# Altium schematic symbol library RLC.SchLib: 75 symbols
Pins are listed as number, name and electrical type; pins without a type are passive.

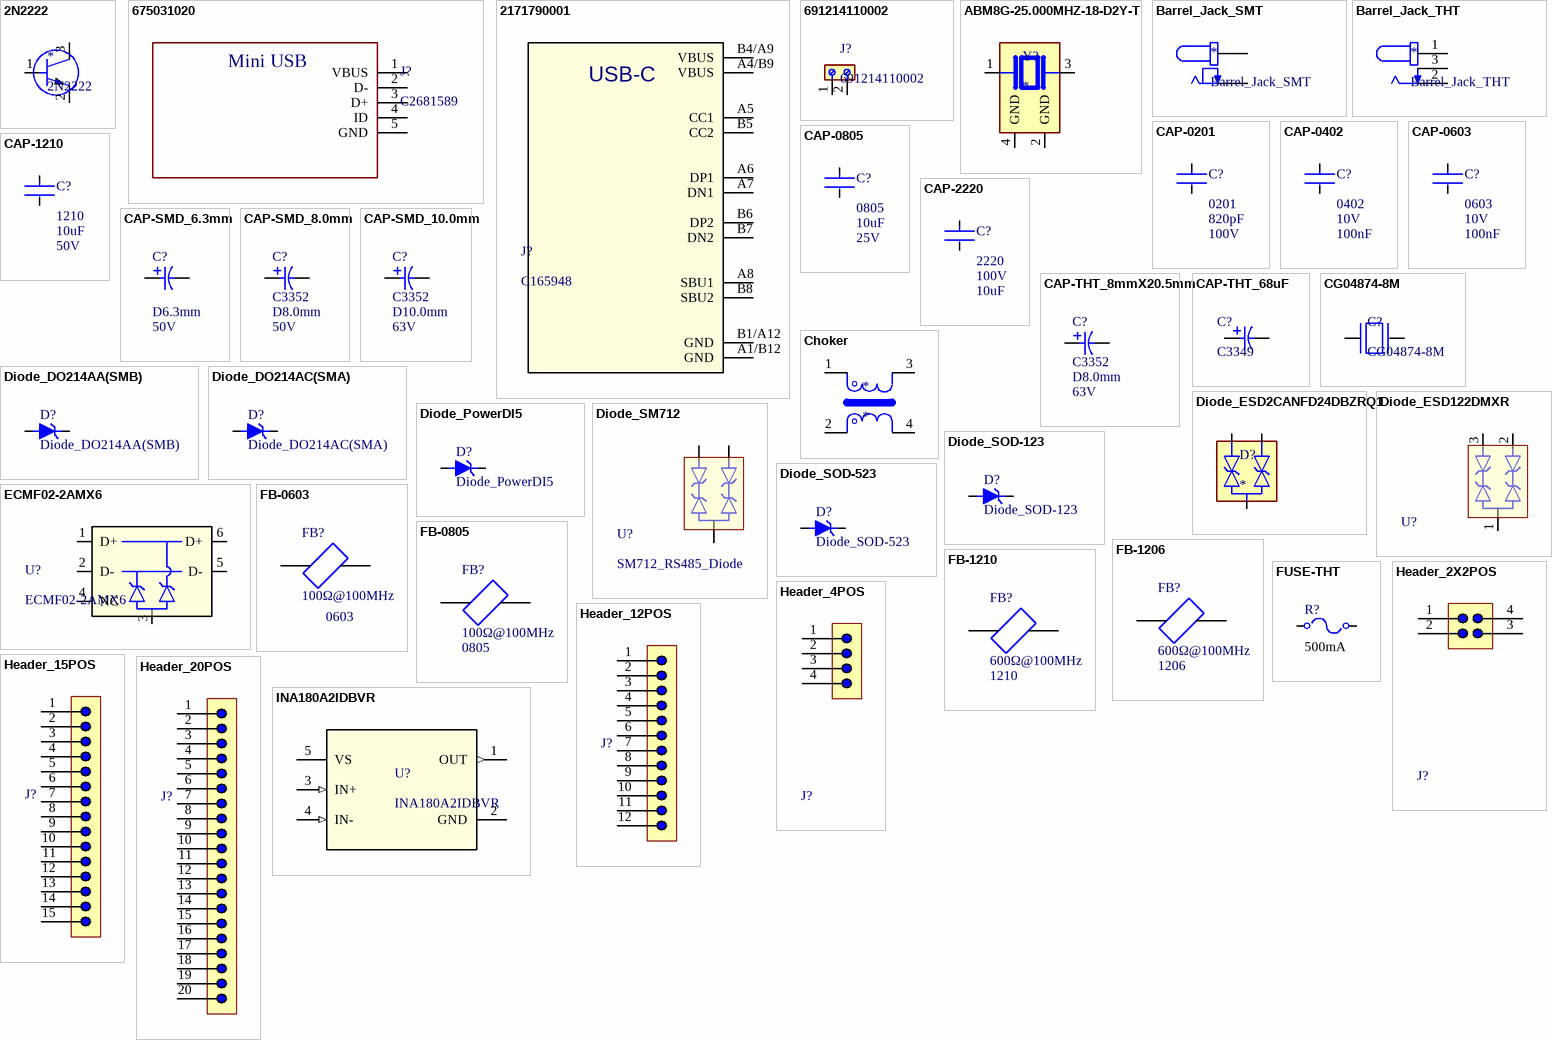
[diagram p0: symbols 2N2222 to INA180A2IDBVR]

## 2N2222
designator *
TO92
footprint 2N2222_TO92
pins: 1, 2, 3

## 675031020
designator J?, comment C2681589
JLCPCB - C2681589; MF: Molex; MP: 675031020; SnapEDA_Link: https://www.snapeda.com/parts/675031020/Molex/view-part/?ref=snap; Package: None; Value: *; Check_prices: https://www.snapeda.com/parts/675031020/Molex/view-part/?ref=eda
footprint CON00317_5_MOL
pins: 1 VBUS, 2 D-, 3 D+, 4 ID, 5 GND
text: Mini USB

## 2171790001
designator J?, comment C165948
JLCPCB: C165948 / Korean Hroparts Elec; Mfr_Name: Korean Hroparts Elec; RefDes: RefDes; Type: Type
footprint 2171790001_MOL
pins: A1/B12 GND (power), A4/B9 VBUS (power), A5 CC1, A6 DP1, A7 DN1, A8 SBU1, B1/A12 GND (power), B4/A9 VBUS (power), B5 CC2, B6 DP2, B7 DN2, B8 SBU2
text: USB-C

## 691214110002
designator J?
2POS Screw Terminal Block Horizontal with Board 0.138 (3.50mm) Through Hole; MF: WÃ¼rth Elektronik; SnapEDA_Link: https://www.snapeda.com/parts/691214110002/W%25C3%25BCrth+Elektronik+Midcom/view-part/?ref=snap; Package: None; Value: *; MP: 691214110002; Check_prices: https://www.snapeda.com/parts/691214110002/W%25C3%25BCrth+Elektronik+Midcom/view-part/?ref=eda
footprint 691214110002
pins: 1, 2

## ABM8G-25.000MHZ-18-D2Y-T
designator Y?
25 MHz Â±20ppm Crystal 18pF 60 Ohms 4-SMD, No Lead; MF: Abracon; MP: ABM8G-25.000MHZ-18-D2Y-T; Value: *; SnapEDA_Link: https://www.snapeda.com/parts/ABM8G-25.000MHZ-18-D2Y-T/Abracon+LLC/view-part/?ref=snap; Purchase-URL: https://pricing.snapeda.com/search/part/ABM8G-25.000MHZ-18-D2Y-T/?ref=eda; Availability: In Stock; Price: None; Package: SMD-4 Abracon; Check_prices: https://www.snapeda.com/parts/ABM8G-25.000MHZ-18-D2Y-T/Abracon+LLC/view-part/?ref=eda
footprint XTAL_ABM8G-25.000MHZ-18-D2Y-T
pins: 1, 2 GND (power), 3 2, 4 GND (power)

## Barrel_Jack_SMT
designator *
2.0 x 6.5 mm, 5.0 A, Horizontal, Surface Mount (SMT), Dc Power Jack Connector / PJ-002AH-SMT-TR
footprint Barrel_Jack_SMT
pins: 1A 1, 1B 1, 2A 2, 2B 2

## Barrel_Jack_THT
designator *
2.0 x 6.5 mm, 5.0 A, Horizontal, Surface Mount (SMT), Dc Power Jack Connector / PJ-002AH-SMT-TR
footprint Barrel_Jack_THT
pins: 1, 1A 1, 2, 3

## CAP-0201
designator C?, comment Capacitance: 820pF  Voltage Rating: 100V  (hidden comment: 0201)
CAP 0201; 3DS Part Number: 220-00002; Manufacturer Part Number: GRM32ER60J107ME20L; Manufacturer: Murata; Voltage: 6.3V; Temperature Characteristic: X5R; Temperature Coefficient: 15%; Material: Ceramic; Value: 100uF; Tolerance: 20%; Octopart: https://octopart.com/grm32er60j107me20l-murata-197007; ComponentLink2URL: https://search.murata.co.jp/Ceramy/image/img/A01X/G101/ENG/GRM32ER60J107ME20-01.pdf; Temperature Range High: +85°C; RoHS: TRUE; Device Class L3: Ceramic Capacitors; Device Class L2: Capacitors; Category: Cap; Device Class L1: Passive Components; Automotive: No; Digikey Description: CAP CER 100UF 6.3V X5R 1210; Temperature: -55°C to +85°C; Height: 2.7mm; Ipc Land Pattern Name: CAPC320250X250; Temperature Range Low: -55°C; Lead Free: Yes; ComponentLink2Description: Datasheet; Package: 0201
footprint CAP-0201
pins: 1, 2

## CAP-0402
designator C?, comment value 100nF  Voltage Rating: 10V  (hidden comment: 0402)
CAP 0402; 3DS Part Number: 220-00002; Manufacturer Part Number: GRM32ER60J107ME20L; Manufacturer: Murata; Voltage: 6.3V; Temperature Characteristic: X5R; Temperature Coefficient: 15%; Capacitance: 100uF; Material: Ceramic; Tolerance: 20%; Octopart: https://octopart.com/grm32er60j107me20l-murata-197007; ComponentLink2URL: https://search.murata.co.jp/Ceramy/image/img/A01X/G101/ENG/GRM32ER60J107ME20-01.pdf; Temperature Range High: +85°C; RoHS: TRUE; Device Class L3: Ceramic Capacitors; Device Class L2: Capacitors; Category: Cap; Device Class L1: Passive Components; Automotive: No; Digikey Description: CAP CER 100UF 6.3V X5R 1210; Temperature: -55°C to +85°C; Height: 2.7mm; Ipc Land Pattern Name: CAPC320250X250; Temperature Range Low: -55°C; Lead Free: Yes; ComponentLink2Description: Datasheet; Package: 0402
footprint CAP-0402
pins: 1, 2

## CAP-0603
designator C?, comment Voltage Rating: 10V  Capacitance: 100nF  (hidden comment: 0603)
CAP 0603; 3DS Part Number: 220-00002; Manufacturer Part Number: GRM32ER60J107ME20L; Manufacturer: Murata; Temperature Characteristic: X5R; Temperature Coefficient: 15%; Material: Ceramic; Value: 100uF; Tolerance: 20%; Voltage: 6.3V; Octopart: https://octopart.com/grm32er60j107me20l-murata-197007; ComponentLink2URL: https://search.murata.co.jp/Ceramy/image/img/A01X/G101/ENG/GRM32ER60J107ME20-01.pdf; Temperature Range High: +85°C; RoHS: TRUE; Device Class L3: Ceramic Capacitors; Device Class L2: Capacitors; Category: Cap; Device Class L1: Passive Components; Automotive: No; Digikey Description: CAP CER 100UF 6.3V X5R 1210; Temperature: -55°C to +85°C; Height: 2.7mm; Ipc Land Pattern Name: CAPC320250X250; Temperature Range Low: -55°C; Lead Free: Yes; ComponentLink2Description: Datasheet; Package: 0603
footprint CAP-0603
pins: 1, 2

## CAP-0805
designator C?, comment Capacitance: 10uF  Voltage Rating: 25V  (hidden comment: 0805)
CAP 0805; 3DS Part Number: 220-00002; Manufacturer Part Number: GRM32ER60J107ME20L; Manufacturer: Murata; Voltage: 6.3V; Temperature Characteristic: X5R; Temperature Coefficient: 15%; Material: Ceramic; Value: 100uF; Tolerance: 20%; Octopart: https://octopart.com/grm32er60j107me20l-murata-197007; ComponentLink2URL: https://search.murata.co.jp/Ceramy/image/img/A01X/G101/ENG/GRM32ER60J107ME20-01.pdf; Temperature Range High: +85°C; RoHS: TRUE; Device Class L3: Ceramic Capacitors; Device Class L2: Capacitors; Category: Cap; Device Class L1: Passive Components; Automotive: No; Digikey Description: CAP CER 100UF 6.3V X5R 1210; Temperature: -55°C to +85°C; Height: 2.7mm; Ipc Land Pattern Name: CAPC320250X250; Temperature Range Low: -55°C; Lead Free: Yes; ComponentLink2Description: Datasheet; Package: 0805
footprint CAP-0805 (Footprint not found)
pins: 1, 2

## CAP-1210
designator C?, comment Capacitance: 10uF  Voltage Rating: 50V  (hidden comment: 1210)
CAP 1210; 3DS Part Number: 220-00002; Manufacturer Part Number: GRM32ER60J107ME20L; Manufacturer: Murata; Temperature Characteristic: X5R; Temperature Coefficient: 15%; Material: Ceramic; Tolerance: 20%; Value: 10uF; Octopart: https://octopart.com/grm32er60j107me20l-murata-197007; ComponentLink2URL: https://search.murata.co.jp/Ceramy/image/img/A01X/G101/ENG/GRM32ER60J107ME20-01.pdf; Temperature Range High: +85°C; RoHS: TRUE; Device Class L3: Ceramic Capacitors; Device Class L2: Capacitors; Category: Cap; Device Class L1: Passive Components; Automotive: No; Digikey Description: CAP CER 100UF 6.3V X5R 1210; Temperature: -55°C to +85°C; Height: 2.7mm; Ipc Land Pattern Name: CAPC320250X250; Temperature Range Low: -55°C; Lead Free: Yes; ComponentLink2Description: Datasheet; Voltage: 50V; Package: 1210
footprint CAP-1210 (CAP 1210)
pins: 1, 2

## CAP-2220
designator C?, comment Voltage Rating: 100V  Capacitance: 10uF  (hidden comment: 2220)
CAP 2220; 3DS Part Number: 220-00002; Manufacturer Part Number: GRM32ER60J107ME20L; Manufacturer: Murata; Voltage: 6.3V; Temperature Characteristic: X5R; Temperature Coefficient: 15%; Material: Ceramic; Value: 100uF; Tolerance: 20%; Octopart: https://octopart.com/grm32er60j107me20l-murata-197007; ComponentLink2URL: https://search.murata.co.jp/Ceramy/image/img/A01X/G101/ENG/GRM32ER60J107ME20-01.pdf; Temperature Range High: +85°C; RoHS: TRUE; Device Class L3: Ceramic Capacitors; Device Class L2: Capacitors; Category: Cap; Device Class L1: Passive Components; Automotive: No; Digikey Description: CAP CER 100UF 6.3V X5R 1210; Temperature: -55°C to +85°C; Height: 2.7mm; Ipc Land Pattern Name: CAPC320250X250; Temperature Range Low: -55°C; Lead Free: Yes; ComponentLink2Description: Datasheet; Package: 2220
footprint CAP-2220
pins: 1, 2

## CAP-SMD_6.3mm
designator C?, comment Diameter: D6.3mm  VoltageRating: 50V  (hidden comment: C3349)
SMD Aluminium Electrolytic Capacitor / D6.3mm; Manufacturer_Name: Panasonic; Manufacturer_Part_Number: EEE-FK1H470XP; Copyright: Copyright (C) 2025 Ultra Librarian. All rights reserved.
footprint CAP-ELECTROLYTIC-D6.3
pins: 1, 2

## CAP-SMD_8.0mm
designator C?, comment C3352  Diameter: D8.0mm  VoltageRating: 50V
SMD Aluminium Electrolytic Capacitor / D8.0mm; Manufacturer_Name: Panasonic; Manufacturer_Part_Number: EEE-FK1H470XP; Copyright: Copyright (C) 2025 Ultra Librarian. All rights reserved.
footprint CAP-ELECTROLYTIC-D6.3
pins: 1, 2

## CAP-SMD_10.0mm
designator C?, comment C3352  Diameter: D10.0mm  VoltageRating: 63V
SMD Aluminium Electrolytic Capacitor / D10.0mm / EEH-ZA1J560P; Manufacturer_Name: Panasonic; Manufacturer_Part_Number: EEE-FK1H470XP; Copyright: Copyright (C) 2025 Ultra Librarian. All rights reserved.
footprint CAP-ELECTROLYTIC-D6.3
pins: 1, 2

## CAP-THT_8mmX20.5mm
designator C?, comment C3352  Diameter: D8.0mm  VoltageRating: 63V
90 degree laying down THT Capacitor; Manufacturer_Name: Panasonic; Manufacturer_Part_Number: EEE-FK1H470XP; Copyright: Copyright (C) 2025 Ultra Librarian. All rights reserved.
footprint CAP-THT-Electrolytic-D8.0mm_90degree
pins: 1, 2

## CAP-THT_68uF
designator C?, comment C3349
3.50mm Lead Space / 8mm Dia / 493-1935-ND; Manufacturer_Name: Panasonic; Manufacturer_Part_Number: EEE-FK1H470XP; Copyright: Copyright (C) 2025 Ultra Librarian. All rights reserved.
footprint CAP-THT-Electrolytic-D8.0
pins: 1, 2

## CG04874-8M
designator C?
8 MHz ±20ppm Crystal 8pF 500 Ohms 2-SMD, No Lead; MF: NDK America, Inc.; SnapEDA_Link: https://www.snapeda.com/parts/CG04874-8M/NDK+America%252C+Inc./view-part/?ref=snap; Package: SMD-2 NDK America,; Value: *; MP: CG04874-8M; Check_prices: https://www.snapeda.com/parts/CG04874-8M/NDK+America%252C+Inc./view-part/?ref=eda
footprint XTALDFN320X250X100-2N (Footprint not found)
pins: 1, 2

## Choker
designator *
Choker 2 Lane / SRF1280-4R7Y
footprint Choker_SRF1280-4R7Y (Footprint not found)
pins: 1, 2, 3 4, 4

## Diode_DO214AA(SMB)
designator D?
SMB Diode; MF: ON Semiconductor; MP: MMSZ4681T1G; SnapEDA_Link: https://www.snapeda.com/parts/MMSZ4681T1G/Onsemi/view-part/?ref=snap; Package: SOD-123-2 ON Semiconductor; Value: *; Check_prices: https://www.snapeda.com/parts/MMSZ4681T1G/Onsemi/view-part/?ref=eda
footprint DIO_DIO214AA(SMB)
pins: A, C K

## Diode_DO214AC(SMA)
designator D?
SMA Diode; MF: ON Semiconductor; MP: MMSZ4681T1G; SnapEDA_Link: https://www.snapeda.com/parts/MMSZ4681T1G/Onsemi/view-part/?ref=snap; Package: SOD-123-2 ON Semiconductor; Value: *; Check_prices: https://www.snapeda.com/parts/MMSZ4681T1G/Onsemi/view-part/?ref=eda
footprint DIO_DIO214AC(SMA)
pins: A, C K

## Diode_ESD2CANFD24DBZRQ1
designator D?
FDCAN BUS Diode - 24V; MF: {'manufacturer': u'Texas Instruments'}; MP: ESD2CANFD24DBZRQ1; Package: None; Price: None; Value: *; Availability: Unavailable
footprint SOT23-3
pins: 1 IO1, 2 IO2, 3 GND (power)

## Diode_ESD122DMXR
designator U?, comment ESD122DMXR  (value not drawn)
Dual 0.2-pF, &plusmn;3.6-V, &plusmn;17-kV ESD protection diode for USB Type-C and HDMI 2.0 3-X2SON -40 to 125; Manufacturer_Name: Texas Instruments; Copyright: Copyright (C) 2025 Ultra Librarian. All rights reserved.; Manufacturer_Part_Number: ESD122DMXR; RefDes: RefDes; Type: Type
footprint DMX3_TEX
pins: 1, 2, 3

## Diode_PowerDI5
designator D?
PowerDI5 package from Diodes Incorporated / SBRT20M60SP5-7; MF: ON Semiconductor; MP: MMSZ4681T1G; SnapEDA_Link: https://www.snapeda.com/parts/MMSZ4681T1G/Onsemi/view-part/?ref=snap; Package: SOD-123-2 ON Semiconductor; Value: *; Check_prices: https://www.snapeda.com/parts/MMSZ4681T1G/Onsemi/view-part/?ref=eda
footprint DIO_PowerDI5
pins: A, C K

## Diode_SM712
designator U?, comment SM712_RS485_Diode
CDSOT23-SM712 / RS485Protection; Manufacturer_Name: Texas Instruments; Manufacturer_Part_Number: ESD122DMXR; Copyright: Copyright (C) 2025 Ultra Librarian. All rights reserved.; RefDes: RefDes; Type: Type
footprint SOT23-3
pins: 1, 2, 3

## Diode_SOD-123
designator D?
SOD-123 Diode; MF: ON Semiconductor; MP: MMSZ4681T1G; SnapEDA_Link: https://www.snapeda.com/parts/MMSZ4681T1G/Onsemi/view-part/?ref=snap; Package: SOD-123-2 ON Semiconductor; Value: *; Check_prices: https://www.snapeda.com/parts/MMSZ4681T1G/Onsemi/view-part/?ref=eda
footprint DIO_SOD-123
pins: A, C K

## Diode_SOD-523
designator D?
SOD-523 Diode; MF: ON Semiconductor; MP: MMSZ4681T1G; SnapEDA_Link: https://www.snapeda.com/parts/MMSZ4681T1G/Onsemi/view-part/?ref=snap; Package: SOD-123-2 ON Semiconductor; Value: *; Check_prices: https://www.snapeda.com/parts/MMSZ4681T1G/Onsemi/view-part/?ref=eda
footprint DIO_SOD-523
pins: A, C K

## ECMF02-2AMX6
designator U?
Common-mode filter and ESD protection for USB 2.0 and MIPI/MDDI interfaces; Manufacturer_Name: STMicroelectronics; Copyright: Copyright (C) 2025 Ultra Librarian. All rights reserved.; Manufacturer_Part_Number: ECMF02-2AMX6; RefDes: RefDes; Type: Type
footprint QFN-6L_STM (Footprint not found)
pins: 1 D+, 2 D-, 3 GND, 4 NC, 5 D-, 6 D+

## FB-0603
designator FB?  Impedance: 100Ω@100MHz  Package: 0603  (hidden comment: FB-0603)
MF: TDK; SnapEDA_Link: https://www.snapeda.com/parts/MPZ2012S601AT000/TDK-Lambda%20Americas%20Inc/view-part/259003/?ref=snap; Value: *; Availability: Good; Purchase-URL: https://pricing.snapeda.com/search/part/MPZ2012S601AT000/?ref=eda; Price: None
footprint FB-0603
pins: 1, 2

## FB-0805
designator FB?  Impedance: 100Ω@100MHz  Package: 0805  (hidden comment: FB-0805)
MF: TDK; SnapEDA_Link: https://www.snapeda.com/parts/MPZ2012S601AT000/TDK-Lambda%20Americas%20Inc/view-part/259003/?ref=snap; Value: *; Availability: Good; Purchase-URL: https://pricing.snapeda.com/search/part/MPZ2012S601AT000/?ref=eda; Price: None
footprint FB-0805
pins: 1, 2

## FB-1206
designator FB?  Inductance: 600Ω@100MHz  Package: 1206  (hidden comment: FB-1206)
MF: TDK; SnapEDA_Link: https://www.snapeda.com/parts/MPZ2012S601AT000/TDK-Lambda%20Americas%20Inc/view-part/259003/?ref=snap; Value: *; Availability: Good; Purchase-URL: https://pricing.snapeda.com/search/part/MPZ2012S601AT000/?ref=eda; Price: None
footprint FB-1206
pins: 1, 2

## FB-1210
designator FB?  Impedance: 600Ω@100MHz  Package: 1210  (hidden comment: FB-1210)
MF: TDK; SnapEDA_Link: https://www.snapeda.com/parts/MPZ2012S601AT000/TDK-Lambda%20Americas%20Inc/view-part/259003/?ref=snap; Value: *; Availability: Good; Purchase-URL: https://pricing.snapeda.com/search/part/MPZ2012S601AT000/?ref=eda; Price: None
footprint FB-1210
pins: 1, 2

## FUSE-THT
designator R?  Itrip: 500mA  (hidden comment: FUSE-THT)
Type: PTC Fuse
footprint RES-2512 (Footprint not found)
pins: 1, 2

## Header_2X2POS
designator J?, comment 61300411121  (value not drawn)
4POS Pin Header, THT, Vertical, pitch 2.54mm, 1 Row, 4P; Manufacturer: Wurth Elektronik; Match Code: WR-PHD; Contact Resistance: 20mOhm; Rated Current: 3A; Working Voltage: 250V; Withstanding Voltage: 500V; Manufacturer Part Number: 61300411121; Category: Board-to-Board Connectors; ComponentLink1Description: Website Link; ComponentLink1URL: https://www.we-online.com/redexpert/article/61300411121?ad; ComponentLink2Description: Datasheet Link; ComponentLink2URL: https://www.we-online.com/redexpert/spec/61300411121?ad; Mount: Through Hole; Operating Temperature Max: 105°C; Operating Temperature Min: -40°C; Packaging: Bag; Gender: Pin Header; Number of Pins: 4; Number of Rows: 1; Orientation: Vertical; Pitch: 2.54mm
footprint HEADER_2X2POS (Pin Header, pitch 2.54 mm, THT, Vertical, single row, 4p)
pins: 1, 2, 3, 4

## Header_4POS
designator J?, comment 61300411121  (value not drawn)
4POS Pin Header, THT, Vertical, pitch 2.54mm, 1 Row, 4P; Manufacturer: Wurth Elektronik; Match Code: WR-PHD; Contact Resistance: 20mOhm; Rated Current: 3A; Working Voltage: 250V; Withstanding Voltage: 500V; Manufacturer Part Number: 61300411121; Category: Board-to-Board Connectors; ComponentLink1Description: Website Link; ComponentLink1URL: https://www.we-online.com/redexpert/article/61300411121?ad; ComponentLink2Description: Datasheet Link; ComponentLink2URL: https://www.we-online.com/redexpert/spec/61300411121?ad; Mount: Through Hole; Operating Temperature Max: 105°C; Operating Temperature Min: -40°C; Packaging: Bag; Gender: Pin Header; Number of Pins: 4; Number of Rows: 1; Orientation: Vertical; Pitch: 2.54mm
footprint HEADER_4POS (Pin Header, pitch 2.54 mm, THT, Vertical, single row, 4p)
pins: 1, 2, 3, 4

## Header_12POS
designator J?, comment 61300411121  (value not drawn)
4POS Pin Header, THT, Vertical, pitch 2.54mm, 1 Row, 4P; Manufacturer: Wurth Elektronik; Match Code: WR-PHD; Contact Resistance: 20mOhm; Rated Current: 3A; Working Voltage: 250V; Withstanding Voltage: 500V; Manufacturer Part Number: 61300411121; Category: Board-to-Board Connectors; ComponentLink1Description: Website Link; ComponentLink1URL: https://www.we-online.com/redexpert/article/61300411121?ad; ComponentLink2Description: Datasheet Link; ComponentLink2URL: https://www.we-online.com/redexpert/spec/61300411121?ad; Mount: Through Hole; Operating Temperature Max: 105°C; Operating Temperature Min: -40°C; Packaging: Bag; Gender: Pin Header; Number of Pins: 4; Number of Rows: 1; Orientation: Vertical; Pitch: 2.54mm
footprint HEADER_12POS (Pin Header, pitch 2.54 mm, THT, Vertical, single row, 4p)
pins: 1, 2, 3, 4, 5, 6, 7, 8, 9, 10, 11, 12

## Header_15POS
designator J?, comment 61300411121  (value not drawn)
15POS 0.1inch; Manufacturer: Wurth Elektronik; Match Code: WR-PHD; Contact Resistance: 20mOhm; Gender: Pin Header; Pitch: 2.54mm; Rated Current: 3A; Working Voltage: 250V; Withstanding Voltage: 500V; Manufacturer Part Number: 61300411121; Category: Board-to-Board Connectors; ComponentLink1Description: Website Link; ComponentLink1URL: https://www.we-online.com/redexpert/article/61300411121?ad; ComponentLink2Description: Datasheet Link; ComponentLink2URL: https://www.we-online.com/redexpert/spec/61300411121?ad; Mount: Through Hole; Operating Temperature Max: 105°C; Operating Temperature Min: -40°C; Packaging: Bag; Number of Pins: 4; Number of Rows: 1; Orientation: Vertical
footprint HEADER_15POS (Pin Header, pitch 2.54 mm, THT, Vertical, single row, 4p)
pins: 1, 2, 3, 4, 5, 6, 7, 8, 9, 10, 11, 12, 13, 14, 15

## Header_20POS
designator J?, comment 61300411121  (value not drawn)
20POS 0.1inch; Manufacturer: Wurth Elektronik; Match Code: WR-PHD; Contact Resistance: 20mOhm; Gender: Pin Header; Pitch: 2.54mm; Rated Current: 3A; Working Voltage: 250V; Withstanding Voltage: 500V; Manufacturer Part Number: 61300411121; Category: Board-to-Board Connectors; ComponentLink1Description: Website Link; ComponentLink1URL: https://www.we-online.com/redexpert/article/61300411121?ad; ComponentLink2Description: Datasheet Link; ComponentLink2URL: https://www.we-online.com/redexpert/spec/61300411121?ad; Mount: Through Hole; Operating Temperature Max: 105°C; Operating Temperature Min: -40°C; Packaging: Bag; Number of Pins: 4; Number of Rows: 1; Orientation: Vertical
footprint HEADER_20POS (Footprint not found)
pins: 1, 2, 3, 4, 5, 6, 7, 8, 9, 10, 11, 12, 13, 14, 15, 16, 17, 18, 19, 20

## INA180A2IDBVR
designator U?
26V, 350kHz current sense amplifier 5-SOT-23 -40 to 125; Manufacturer_Name: Texas Instruments; TYPE: TYPE; RefDes: RefDes; Copyright: Copyright (C) 2026 Ultra Librarian. All rights reserved.; Manufacturer_Part_Number: INA180A2IDBVR
footprint DBV0005A_N
pins: 1 OUT (out), 2 GND (power), 3 IN+ (in), 4 IN- (in), 5 VS (power)

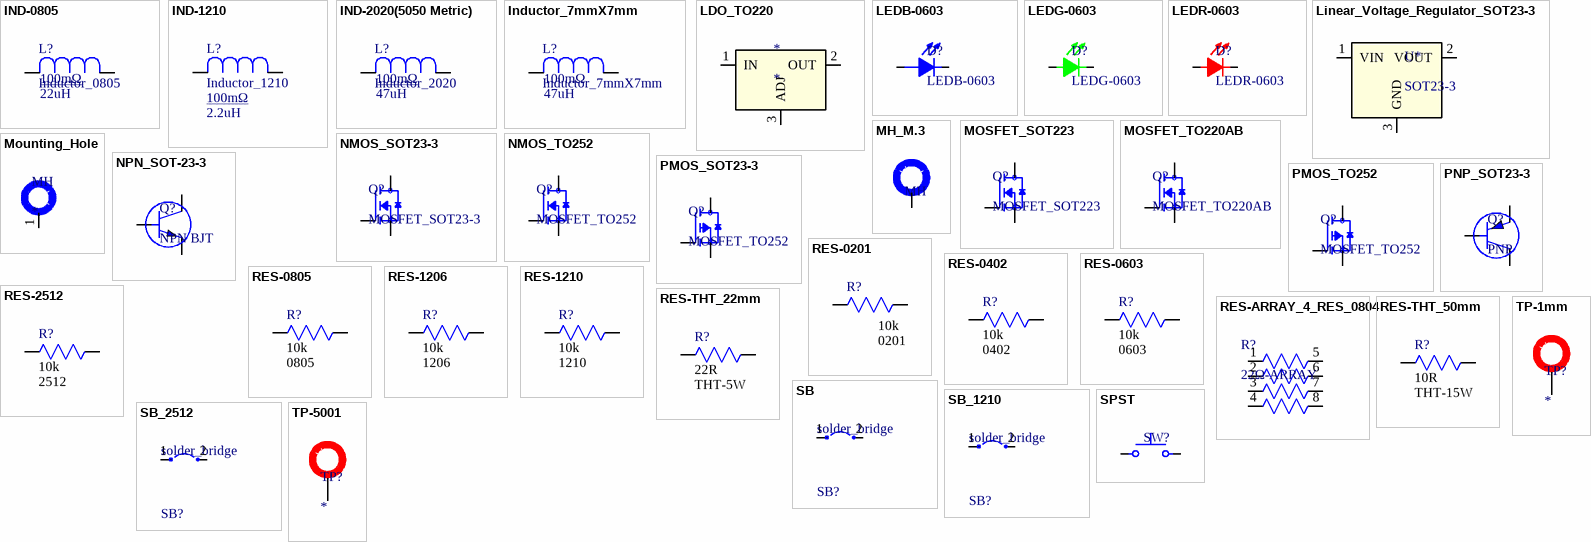
[diagram p1: symbols IND-0805 to TP-5001]

## IND-0805
designator L?, comment Inductor_0805  value 22uH  DCR: 100mΩ
Inductor-0805; MF: Eaton; MP: DR74-2R2-R; SnapEDA_Link: https://www.snapeda.com/parts/DR74-2R2-R/Eaton/view-part/?ref=snap; Package: Nonstandard Eaton
footprint IND-0805
pins: 1, 2

## IND-1210
designator L?, comment Inductor_1210  value 2.2uH  DCR: 100mΩ
Inductor-1210 / BRL3225T2R2M; MF: Eaton; MP: DR74-2R2-R; SnapEDA_Link: https://www.snapeda.com/parts/DR74-2R2-R/Eaton/view-part/?ref=snap; Package: Nonstandard Eaton
footprint IND-1210 (BRL3225T2R2M / 2.2uH)
pins: 1, 2

## IND-2020(5050 Metric)
designator L?, comment Inductor_2020  value 47uH  DCR: 100mΩ
Inductor-2020; MF: Eaton; MP: DR74-2R2-R; SnapEDA_Link: https://www.snapeda.com/parts/DR74-2R2-R/Eaton/view-part/?ref=snap; Package: Nonstandard Eaton
footprint IND-2020
pins: 1, 2

## Inductor_7mmX7mm
designator L?  value 47uH  DCR: 100mΩ
Inductor-7mmX7mm_Free_Size / JLCPCB - MDA7030-220M / C2847487; MF: Eaton; MP: DR74-2R2-R; SnapEDA_Link: https://www.snapeda.com/parts/DR74-2R2-R/Eaton/view-part/?ref=snap; Check_prices: https://www.snapeda.com/parts/DR74-2R2-R/Eaton/view-part/?ref=eda
footprint IND_7mmX7mm (Footprint not found)
pins: 1, 2

## LDO_TO220
designator *
footprint MOSFET_TO220AB
pins: 1 IN, 2 OUT, 3 ADJ

## LEDB-0603
designator D?
LED-0603; MP: LTST-C193KRKT-5A; MF: Lite-On Inc.; SnapEDA_Link: https://www.snapeda.com/parts/LTST-C193KRKT-5A/Lite-On+Inc./view-part/?ref=snap; Package: 0603 Lite-On Inc.; Check_prices: https://www.snapeda.com/parts/LTST-C193KRKT-5A/Lite-On+Inc./view-part/?ref=eda; Purchase-URL: https://pricing.snapeda.com/search/part/LTST-C193KRKT-5A/?ref=eda; Digi-Key_Part_Number: 160-1830-2-ND; Value: *
footprint LED-0603
pins: A, C

## LEDG-0603
designator D?
LED-0603; MP: LTST-C193KRKT-5A; MF: Lite-On Inc.; SnapEDA_Link: https://www.snapeda.com/parts/LTST-C193KRKT-5A/Lite-On+Inc./view-part/?ref=snap; Package: 0603 Lite-On Inc.; Check_prices: https://www.snapeda.com/parts/LTST-C193KRKT-5A/Lite-On+Inc./view-part/?ref=eda; Purchase-URL: https://pricing.snapeda.com/search/part/LTST-C193KRKT-5A/?ref=eda; Digi-Key_Part_Number: 160-1830-2-ND; Value: *
footprint LED-0603
pins: A, C

## LEDR-0603
designator D?
LED-0603; MP: LTST-C193KRKT-5A; MF: Lite-On Inc.; SnapEDA_Link: https://www.snapeda.com/parts/LTST-C193KRKT-5A/Lite-On+Inc./view-part/?ref=snap; Package: 0603 Lite-On Inc.; Check_prices: https://www.snapeda.com/parts/LTST-C193KRKT-5A/Lite-On+Inc./view-part/?ref=eda; Purchase-URL: https://pricing.snapeda.com/search/part/LTST-C193KRKT-5A/?ref=eda; Digi-Key_Part_Number: 160-1830-2-ND; Value: *
footprint LED-0603
pins: A, C

## Linear_Voltage_Regulator_SOT23-3
designator U*, comment SOT23-3
AP7375-50SA-7
footprint Linear_Voltage_Regulator_SOT23-3
pins: 1 VIN, 2 VOUT, 3 GND

## MH_M.3
designator MH  (value not drawn)
footprint MH_M.3
pins: 10

## MOSFET_SOT223
designator Q?
SOT223; MF: Alpha & Omega Semiconductor; MP: AO3400A; SnapEDA_Link: https://www.snapeda.com/parts/AO3400A/Alpha/view-part/?ref=snap; Package: SOT-23 Alpha &amp; Omega Semiconductor Inc.; Value: *; Check_prices: https://www.snapeda.com/parts/AO3400A/Alpha/view-part/?ref=eda
footprint MOSFET_SOT223
pins: 1 G, 2 D, 3 S

## MOSFET_TO220AB
designator Q?
MF: Alpha & Omega Semiconductor; MP: AO3400A; SnapEDA_Link: https://www.snapeda.com/parts/AO3400A/Alpha/view-part/?ref=snap; Package: SOT-23 Alpha &amp; Omega Semiconductor Inc.; Value: *; Check_prices: https://www.snapeda.com/parts/AO3400A/Alpha/view-part/?ref=eda
footprint MOSFET_TO220AB
pins: 1 G, 1 G, 2 D, 2 D, 3 S, 3 S

## Mounting_Hole
designator MH
footprint Mounting_Hole (Footprint not found)
pins: 1

## NMOS_SOT23-3
designator Q?, comment MOSFET_SOT23-3
N-Channel 30 V 5.7A (Ta) 1.4W (Ta) Surface Mount SOT-23-3; MF: Alpha & Omega Semiconductor; MP: AO3400A; SnapEDA_Link: https://www.snapeda.com/parts/AO3400A/Alpha/view-part/?ref=snap; Package: SOT-23 Alpha &amp; Omega Semiconductor Inc.; Value: *; Check_prices: https://www.snapeda.com/parts/AO3400A/Alpha/view-part/?ref=eda
footprint SOT23-3 (Footprint not found)
pins: 1 G, 2 S, 3 D

## NMOS_TO252
designator Q?, comment MOSFET_TO252
TO252 MOSFET for Motor Driver; MF: Alpha & Omega Semiconductor; MP: AO3400A; SnapEDA_Link: https://www.snapeda.com/parts/AO3400A/Alpha/view-part/?ref=snap; Package: SOT-23 Alpha &amp; Omega Semiconductor Inc.; Value: *; Check_prices: https://www.snapeda.com/parts/AO3400A/Alpha/view-part/?ref=eda
footprint MOSFET_TO252
pins: 1 G, 2 S, 3 D

## NPN_SOT-23-3
designator Q?, comment NPN BJT
SOT23-3; MF: Alpha & Omega Semiconductor; MP: AO3400A; SnapEDA_Link: https://www.snapeda.com/parts/AO3400A/Alpha/view-part/?ref=snap; Package: SOT-23 Alpha &amp; Omega Semiconductor Inc.; Value: *; Check_prices: https://www.snapeda.com/parts/AO3400A/Alpha/view-part/?ref=eda
footprint SOT23-3
pins: 1, 2, 3

## PMOS_SOT23-3
designator Q?, comment MOSFET_TO252
TO252 MOSFET for Motor Driver; MF: Alpha & Omega Semiconductor; MP: AO3400A; SnapEDA_Link: https://www.snapeda.com/parts/AO3400A/Alpha/view-part/?ref=snap; Package: SOT-23 Alpha &amp; Omega Semiconductor Inc.; Value: *; Check_prices: https://www.snapeda.com/parts/AO3400A/Alpha/view-part/?ref=eda
footprint SOT23-3
pins: 1 G, 2 S, 3 D

## PMOS_TO252
designator Q?, comment MOSFET_TO252
TO252 MOSFET for Motor Driver; MF: Alpha & Omega Semiconductor; MP: AO3400A; SnapEDA_Link: https://www.snapeda.com/parts/AO3400A/Alpha/view-part/?ref=snap; Package: SOT-23 Alpha &amp; Omega Semiconductor Inc.; Value: *; Check_prices: https://www.snapeda.com/parts/AO3400A/Alpha/view-part/?ref=eda
footprint MOSFET_TO252
pins: 1 G, 2 S, 3 D

## PNP_SOT23-3
designator Q?, comment PNP
SOT23-3; MF: Alpha & Omega Semiconductor; MP: AO3400A; SnapEDA_Link: https://www.snapeda.com/parts/AO3400A/Alpha/view-part/?ref=snap; Package: SOT-23 Alpha &amp; Omega Semiconductor Inc.; Value: *; Check_prices: https://www.snapeda.com/parts/AO3400A/Alpha/view-part/?ref=eda
footprint SOT23-3
pins: 1, 2, 3

## RES-0201
designator R?  value 10k  Type: 0201  (hidden comment: RES-0201)
RESISTOR 0201; Mfr_Name: Yageo
footprint RES-0201 (Footprint not found)
footprint RES-0201-L
pins: 1, 2

## RES-0402
designator R?  value 10k  Type: 0402  (hidden comment: RES-0402)
RESISTOR 0402; Mfr_Name: Yageo
footprint RES-0402
pins: 1, 2

## RES-0603
designator R?  value 10k  Type: 0603  (hidden comment: RES-0603)
RESISTOR 0603; Mfr_Name: Yageo
footprint RES-0603
pins: 1, 2

## RES-0805
designator R?  value 10k  Type: 0805  (hidden comment: RES-0805)
RESISTOR 0805; Mfr_Name: Yageo
footprint RES-0805
pins: 1, 2

## RES-1206
designator R?  value 10k  Type: 1206  (hidden comment: RES-1206)
RESISTOR 1206; Mfr_Name: Yageo
footprint RES-1206
pins: 1, 2

## RES-1210
designator R?  value 10k  Type: 1210  (hidden comment: RES-1210)
RESISTOR 1210; Mfr_Name: Yageo
footprint RES-1210 (Footprint not found)
pins: 1, 2

## RES-2512
designator R?  value 10k  Type: 2512  (hidden comment: RES-2512)
RESISTOR 2512; Mfr_Name: Yageo
footprint RES-2512 (Footprint not found)
pins: 1, 2

## RES-ARRAY_4_RES_0804
designator R?, comment 22Ω-ARRAY
EXB-28V220JX; Mfr_Name: Yageo
footprint RES-ARRAY_4_RES_0804
pins: 1, 2, 3, 4, 5, 6, 7, 8

## RES-THT_22mm
designator R?, comment value 22R  Type: THT-5W  (hidden comment: RES-2512)
(9.50mm x 22.00mm) / CB5JB22R0; Mfr_Name: Yageo
footprint RES-THT_15W
pins: 1, 2

## RES-THT_50mm
designator R?, comment value 10R  Type: THT-15W  (hidden comment: RES-2512)
TUW15J10RE / 50mmX12.50mm; Mfr_Name: Yageo
footprint RES-THT_15W
pins: 1, 2

## SB
designator SB?, comment solder_bridge
Voltage: 10V; Tolerance: 10%; Capacitance: 220nF; Dielectric: X5R; Dielectric Material: Ceramic; Insulation Resistance: 10GR; Package Quantity: 1; Termination: SMD/SMT; Max Operating Temperature: 85°C; REACH SVHC: No SVHC; Thickness: 0.022inch; Mount: Surface Mount; Height: 0.5mm; Length: 1mm; Lead Free: Lead Free; Number of Pins: 2; Case Code (Imperial): 0402; Case/Package: 0402; Min Operating Temperature: -55°C; Packaging: Tape and Reel; Material: Ceramic; Depth: 0.5mm; Series: GRM; Case Code (Metric): 1005; Radiation Hardening: No; RoHS Compliant: Yes; Voltage Rating (DC): 10V; Voltage Rating: 10V; Width: 0.5mm
footprint solder_bridge
pins: 1, 2

## SB_1210
designator SB?, comment solder_bridge
Voltage: 10V; Tolerance: 10%; Capacitance: 220nF; Dielectric: X5R; Dielectric Material: Ceramic; Insulation Resistance: 10GR; Package Quantity: 1; Termination: SMD/SMT; Max Operating Temperature: 85°C; REACH SVHC: No SVHC; Thickness: 0.022inch; Mount: Surface Mount; Height: 0.5mm; Length: 1mm; Lead Free: Lead Free; Number of Pins: 2; Case Code (Imperial): 0402; Case/Package: 0402; Min Operating Temperature: -55°C; Packaging: Tape and Reel; Material: Ceramic; Depth: 0.5mm; Series: GRM; Case Code (Metric): 1005; Radiation Hardening: No; RoHS Compliant: Yes; Voltage Rating (DC): 10V; Voltage Rating: 10V; Width: 0.5mm
footprint solder_bridge-2512 (Footprint not found)
pins: 1, 2

## SB_2512
designator SB?, comment solder_bridge
Voltage: 10V; Tolerance: 10%; Capacitance: 220nF; Dielectric: X5R; Dielectric Material: Ceramic; Insulation Resistance: 10GR; Package Quantity: 1; Termination: SMD/SMT; Max Operating Temperature: 85°C; REACH SVHC: No SVHC; Thickness: 0.022inch; Mount: Surface Mount; Height: 0.5mm; Length: 1mm; Lead Free: Lead Free; Number of Pins: 2; Case Code (Imperial): 0402; Case/Package: 0402; Min Operating Temperature: -55°C; Packaging: Tape and Reel; Material: Ceramic; Depth: 0.5mm; Series: GRM; Case Code (Metric): 1005; Radiation Hardening: No; RoHS Compliant: Yes; Voltage Rating (DC): 10V; Voltage Rating: 10V; Width: 0.5mm
footprint solder_bridge-2512
pins: 1, 2

## SPST
designator SW?  (value not drawn)
Tactile Switch SPST-NO Top Actuated Surface Mount; MP: TL3301AF160QG; MF: E-Switch; SnapEDA_Link: https://www.snapeda.com/parts/TL3301AF160QG/E-Switch/view-part/?ref=snap; Package: None; Check_prices: https://www.snapeda.com/parts/TL3301AF160QG/E-Switch/view-part/?ref=eda; Purchase-URL: https://pricing.snapeda.com/search/part/TL3301AF160QG/?ref=eda; Digi-Key_Part_Number: EG2526TR-ND; Value: *
footprint SPST
pins: 1, 2

## TP-1mm
designator TP?
footprint TP-1mm
pins: 1

## TP-5001
designator TP?
footprint TP-5001 (Footprint not found)
pins: 1